# EAGLE library part JPQ-06- (library jumpers)
Jumper Block
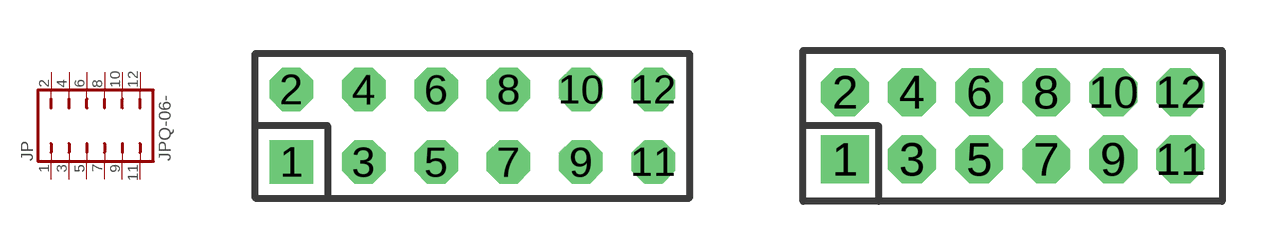
[diagram p11: symbol with the pads of JPQ-06; footprints JPQ-06, JPQ-06M]

Designator prefix JP

## JPQ-06-100  [JPQ-06]
1  1  pas
2  2  pas
3  3  pas
4  4  pas
5  5  pas
6  6  pas
7  7  pas
8  8  pas
9  9  pas
10  10  pas
11  11  pas
12  12  pas

## JPQ-06-2MM  [JPQ-06M]
Pads as for JPQ-06

## JPQ-06-GXC06  [GXC06]
Pads as for JPQ-06

## Footprint JPQ-06 (pad centres in mm)
JUMPER - 0.1" Pitch
drill 1.016 square: 1 -6.35,-1.27
drill 1.016 octagon: 2 -6.35,1.27; 3 -3.81,-1.27; 4 -3.81,1.27; 5 -1.27,-1.27; 6 -1.27,1.27; 7 1.27,-1.27; 8 1.27,1.27; 9 3.81,-1.27; 10 3.81,1.27; 11 6.35,-1.27; 12 6.35,1.27

## Footprint JPQ-06M (pad centres in mm)
JUMPER - 2.00mm (.079") Pitch
drill 0.914 square: 1 -5,-1
drill 0.914 octagon: 2 -5,1; 3 -3,-1; 4 -3,1; 5 -1,-1; 6 -1,1; 7 1,-1; 8 1,1; 9 3,-1; 10 3,1; 11 5,-1; 12 5,1

## Footprint GXC06 (pad centres in mm)
SMD HEADER - 0.1", Vertical
smd 1.27 x 5.08: 1 -6.35,-3.175; 2 -6.35,3.175; 3 -3.81,-3.175; 4 -3.81,3.175; 5 -1.27,-3.175; 6 -1.27,3.175; 7 1.27,-3.175; 8 1.27,3.175; 9 3.81,-3.175; 10 3.81,3.175; 11 6.35,-3.175; 12 6.35,3.175